# Altium schematic symbol library PERSEUS_Parts.SchLib: 6 symbols
Pins are listed as number, name and electrical type; pins without a type are passive.

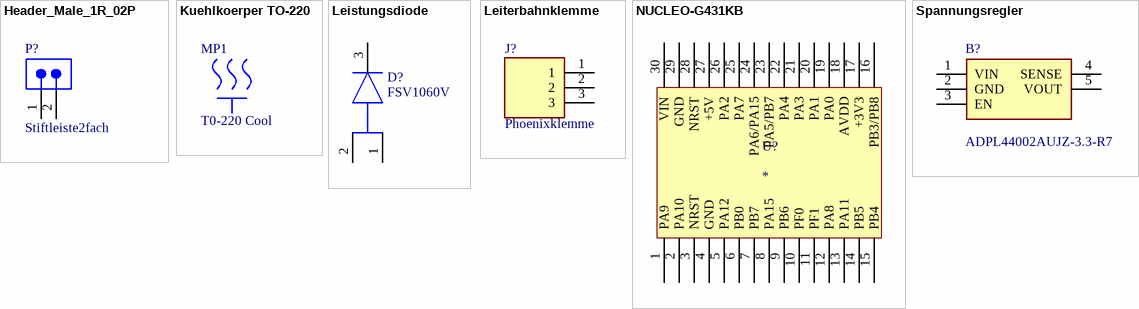
[diagram p0: symbols Header_Male_1R_02P to Spannungsregler]

## Header_Male_1R_02P
designator P?, comment Stiftleiste2fach
Stiftleister für Jumper 2 fach; NexarPartId: 61924778; Current Rating: 2A; Operating Supply Voltage: 200V; Contact Resistance: 20mΩ; Number of Contacts: 2; Gender: Male; RoHS: Non-Compliant; Max Operating Temperature: 105°C; Voltage Rating: 200V; Contact Material: Gold; Height: 6.35mm; Number of Rows: 1; Lead Pitch: 2mm; Min Operating Temperature: -40°C; Number of Pins: 2; Orientation: Vertical
footprint 62000211121 (THT Vertical Pin Header WR-PHD, Pitch 2.00 mm, Single Row, 2 pins)
pins: 1, 2

## Kuehlkoerper TO-220
designator MP1, comment T0-220 Cool
HEAT SINK TO-220 .500" COMPACT 577202B00000G; Natural Thermal Resistance: 24.4°C/W; Thermal Resistance @ Forced Air Flow (100 LFM): 10°C/W; Finish: Anodized; Shape: Fins; Weight: 0.25lb; Height: 12.7mm; Lead Free: Lead Free; Material: Aluminium; Case/Package: TO-220; Package Cooled: TO-220; REACH SVHC: No SVHC; Type: Passive; Radiation Hardening: No; Height Off Base: 0.5inch; Package Quantity: 2000; Packaging: Bulk; Color: Black; Mount: Bolt; RoHS Compliant: Yes; Width: 0.52inch; Length: 19.05mm; Depth: 13.21mm
footprint TO-220 Cool (FP-577202B00000G-MFG)

## Leistungsdiode
designator D?, comment FSV1060V
DIODE SCHOTTKY 60V 10A TO277-3; Manufacturer: ON Semiconductor; Max Junction Temp: +150°C; Max Surge Forward Current: 280A; Peak Reverse Current: 0.056mA; Capacitance: 550pF; Value: 550pF; Device Class L2: Diodes; RoHS: TRUE; Lead Free: Yes; Temperature Range High: +150°C; ComponentLink2URL: https://www.onsemi.com/pub/Collateral/FSV1060V-D.pdf; Temperature Range Low: -55°C; Max Repetitive Reverse Voltage: 60V; Footprint Url: https://www.onsemi.com/pub/Collateral/340BQ.PDF; Reverse Voltage: 60V; Device Class L1: Discrete Semiconductors; Octopart: https://octopart.com/fsv1060v-on+semiconductor-84328651; Height: 1.2mm; Digikey Description: DIODE SCHOTTKY 60V 10A TO277-3; ComponentLink2Description: Datasheet; Manufacturer Part Number: FSV1060V; Temperature: -55°C to +150°C; Package: 340BQ; Device Class L3: Schottky Diodes; Forward Current: 10A; Automotive: No; Mouser Description: Schottky Diodes & Rectifiers Schottky; Category: Diode
footprint FP-340BQ-MFG
pins: 1 Anode 1, 2 Anode 2, 3 C

## Leiterbahnklemme
designator J?, comment Phoenixklemme
Phoenix: Fixed Terminal Blocks 3P 7.5mm GMKDS 1,5/ 3; Manufacturer_Name: Phoenix Contact; Manufacturer_Part_Number: 1717033; Geometry.Height: 13.9mm; Mouser Part Number: 651-1717033; Mouser Price/Stock: https://www.mouser.co.uk/ProductDetail/Phoenix-Contact/1717033?qs=aYsvlkyO7qPHPfcN%252B81Plg%3D%3D; Arrow Part Number: 1717033; Arrow Price/Stock: https://www.arrow.com/en/products/1717033/phoenix-contact?utm_currency=USD&region=nac; Datasheet Link: https://media.digikey.com/pdf/Data%20Sheets/Phoenix%20Contact%20PDFs/1717033.pdf
footprint Phoenix_3er
pins: 1, 2, 3

## NUCLEO-G431KB
designator U?
footprint NUCLEO-G431KB
pins: 1 PA9, 2 PA10, 3 NRST, 4 GND, 5 PA12, 6 PB0, 7 PB7, 8 PA15, 9 PB6, 10 PF0, 11 PF1, 12 PA8, 13 PA11, 14 PB5, 15 PB4, 16 PB3/PB8, 17 +3V3, 18 AVDD, 19 PA0, 20 PA1, 21 PA3, 22 PA4, 23 PA5/PB7, 24 PA6/PA15, 25 PA7, 26 PA2, 27 +5V, 28 NRST, 29 GND, 30 VIN

## Spannungsregler
designator B?, comment ADPL44002AUJZ-3.3-R7
40V, 200mA, Low Noise, CMOS LDO Linear Regulator; Manufacturer_Name: Analog Devices; Geometry.Height: 1mm; Mouser Part Number: 584-PL44002AUJZ33R7; Mouser Price/Stock: https://www.mouser.co.uk/ProductDetail/Analog-Devices/ADPL44002AUJZ-3.3-R7?qs=%252BXxaIXUDbq3bLG2Aqffs8Q%3D%3D; Manufacturer_Part_Number: ADPL44002AUJZ-3.3-R7; Datasheet Link: https://www.analog.com/ADPL44002/datasheet
footprint SOT95P280X100-5N
pins: 1 VIN, 2 GND, 3 EN, 4 SENSE, 5 VOUT